# Altium footprint library RES_4.7K_805.PcbLib: 3 footprints
Each footprint in its own frame and in the unit in brackets; x right, y up, seen from the top. Pads: shape width x height; smd on the part's side, far side on the other; paste and mask are expansions set on the pad; w line width, h text height; cw(c..) or ccw(c..) is an arc to the next point about the centre after c.
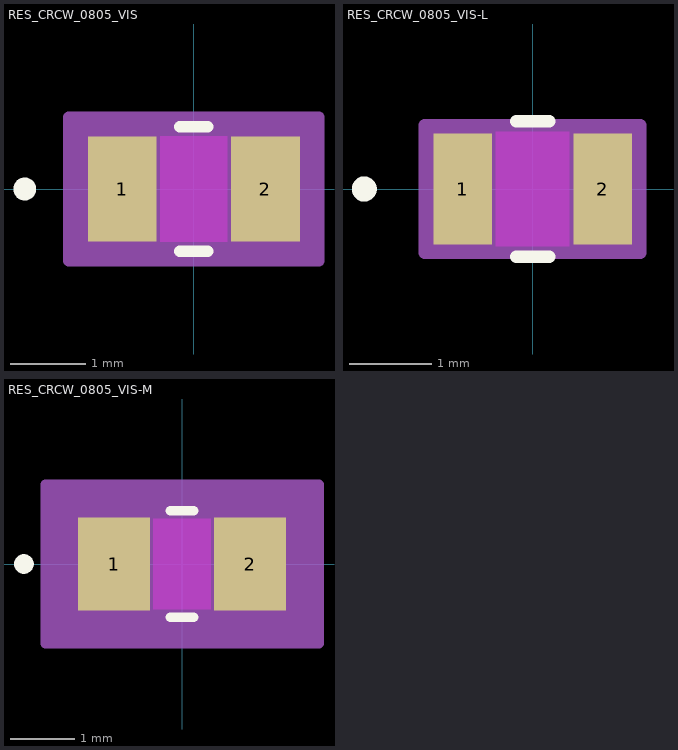
[diagram p0: the footprints below, top view; thin cyan lines are the x and y axes]

## RES_CRCW_0805_VIS [mil]
pads (2):
  rect 36x55 smd paste+0 mask+0: 1(-37.5,0) 2(37.5,0)
Top Layer keep-out:
  region: -17.5,-25.5 -17.5,25.5 17.5,25.5 17.5,-25.5
Top Overlay:
  circle w6: c-88.5,0 r3
  lines w6: -7.39,-32.5 7.39,-32.5 ; -7.39,32.5 7.39,32.5
Keep-Out Layer:
  region: -17.5,-27.5 -17.5,27.5 17.5,27.5 17.5,-27.5
Mechanical 13:
  circle w0: c-32.5,0 r3
  lines w1: -41.5,-27.5 -41.5,27.5 ; -41.5,-27.5 41.5,-27.5 ; -41.5,-27.5 -19.5,-27.5 -19.5,27.5 -41.5,27.5 ; -41.5,-27.5 -41.5,27.5 ; -41.5,27.5 41.5,27.5 ; 41.5,-27.5 41.5,27.5 ; 41.5,-27.5 41.5,27.5 ; 41.5,-27.5 19.5,-27.5 19.5,27.5 41.5,27.5
Mechanical 15:
  region: 65.5,-37.5 -65.5,-37.5 -65.5,37.5 65.5,37.5
  lines w6: -65.5,-37.5 65.5,-37.5 65.5,37.5 -65.5,37.5 -65.5,-37.5
3D body "RES_CRCW_0805_VIS.step": height 24.02, standoff 0, extent -41.5,-27.48 41.5,27.48

## RES_CRCW_0805_VIS-L [mil]
pads (2):
  rect 28x53 smd paste+0 mask+0: 1(-33.5,0) 2(33.5,0)
Top Layer keep-out:
  region: -17.5,-25.5 -17.5,25.5 17.5,25.5 17.5,-25.5
Top Overlay:
  circle w6: c-80.5,0 r3
  lines w6: -7.85,-32.5 7.85,-32.5 ; -7.85,32.5 7.85,32.5
Keep-Out Layer:
  region: -17.5,-27.5 -17.5,27.5 17.5,27.5 17.5,-27.5
Mechanical 13:
  circle w0: c-28.5,0 r3
  lines w1: -41.5,-27.5 -41.5,27.5 ; -41.5,-27.5 -19.5,-27.5 -19.5,27.5 -41.5,27.5 ; -41.5,-27.5 41.5,-27.5 ; -41.5,-27.5 -41.5,27.5 ; -41.5,27.5 41.5,27.5 ; 41.5,-27.5 19.5,-27.5 19.5,27.5 41.5,27.5 ; 41.5,-27.5 41.5,27.5 ; 41.5,-27.5 41.5,27.5
Mechanical 15:
  region: 51.5,-30.5 -51.5,-30.5 -51.5,30.5 51.5,30.5
  lines w6: -51.5,-30.5 -51.5,30.5 51.5,30.5 51.5,-30.5 -51.5,-30.5
3D body "RES_CRCW_0805_VIS.step": height 24.02, standoff 0, extent -41.5,-27.48 41.5,27.48

## RES_CRCW_0805_VIS-M [mil]
pads (2):
  rect 44x57 smd paste+0 mask+0: 1(-41.5,0) 2(41.5,0)
Top Layer keep-out:
  region: -17.5,-25.5 -17.5,25.5 17.5,25.5 17.5,-25.5
Top Overlay:
  circle w6: c-96.5,0 r3
  lines w6: -7.03,-32.5 7.03,-32.5 ; -7.03,32.5 7.03,32.5
Keep-Out Layer:
  region: -17.5,-27.5 -17.5,27.5 17.5,27.5 17.5,-27.5
Mechanical 13:
  circle w0: c-36.5,0 r3
  lines w1: -41.5,-27.5 -41.5,27.5 ; -41.5,-27.5 -19.5,-27.5 -19.5,27.5 -41.5,27.5 ; -41.5,-27.5 41.5,-27.5 ; -41.5,-27.5 -41.5,27.5 ; -41.5,27.5 41.5,27.5 ; 41.5,-27.5 19.5,-27.5 19.5,27.5 41.5,27.5 ; 41.5,-27.5 41.5,27.5 ; 41.5,-27.5 41.5,27.5
Mechanical 15:
  region: 83.5,-48.5 -83.5,-48.5 -83.5,48.5 83.5,48.5
  lines w6: -83.5,-48.5 -83.5,48.5 83.5,48.5 83.5,-48.5 -83.5,-48.5
3D body "RES_CRCW_0805_VIS.step": height 24.02, standoff 0, extent -41.5,-27.48 41.5,27.48